# EAGLE library part DCREG-3.3OUTPUT (library COMPONENTS_LIB)
DC Reg-3.3output
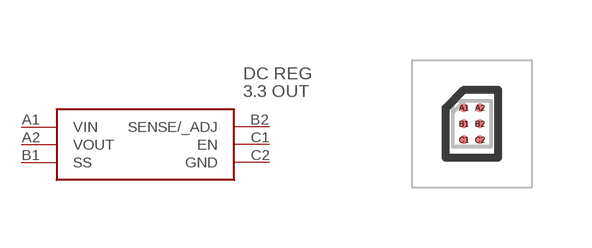
[diagram p1: symbol with the pads of BGA6C40P2X3_95X116X56; footprint BGA6C40P2X3_95X116X56]

Designator prefix PS

## DCREG-3.3OUTPUT (DESCRIPTION: LDO Voltage Regulators 20V 200mA LDO 3.3Vo; HEIGHT: 0.56mm; MANUFACTURER_NAME: Linear Technology; MANUFACTURER_PART_NUMBER: ADP7112ACBZ-3.3-R7; MOUSER_PART_NUMBER: 584-ADP7112ACBZ3.3R7; MOUSER_PRICE-STOCK: https://www.mouser.com/Search/Refine.aspx?Keyword=584-ADP7112ACBZ3.3R7)  [BGA6C40P2X3_95X116X56]
A1  VIN
A2  VOUT
B1  SS
B2  SENSE/_ADJ
C1  EN
C2  GND

## Footprint BGA6C40P2X3_95X116X56 (pad centres in mm)
DC Reg-3.3output
smd 0.208 x 0.208: A1 -0.2,0.4; A2 0.2,0.4; B1 -0.2,0; B2 0.2,0; C1 -0.2,-0.4; C2 0.2,-0.4